# Altium schematic symbol library Piro_lib_v1.SchLib: 4 symbols
Pins are listed as number, name and electrical type; pins without a type are passive.

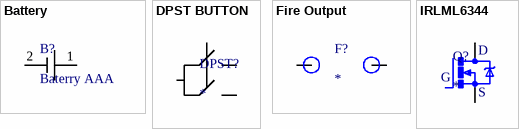
[diagram p0: symbols Battery to IRLML6344]

## Battery
designator B?, comment Baterry AAA
footprint AAA_wire_1
pins: 1 +, 2 -

## DPST BUTTON
designator DPST?
footprint DPST_BUTTON
pins: 1 5, 2 7, 3 6

## Fire Output
designator F?
footprint fire_output
pins: 3, 4

## IRLML6344
designator Q?
Trans MOSFET N-CH 30V 5A 3-Pin SOT-23 T/R; MP: IRLML6344; MF: Infineon Technologies; SnapEDA_Link: https://www.snapeda.com/parts/IRLML6344/Infineon/view-part/?ref=snap; Value: *; Check_prices: https://www.snapeda.com/parts/IRLML6344/Infineon/view-part/?ref=eda; Price: None; Purchase-URL: https://pricing.snapeda.com/search/part/IRLML6344/?ref=eda; Package: None; Availability: In Stock
footprint SOT23
pins: 1 G, 2 S, 3 D